# EAGLE library part MAX4947EBA (library maxim)
Hex SPDT Data Switch Source: http://datasheets.maxim-ic.com/en/ds/MAX4947-MAX4948.pdf
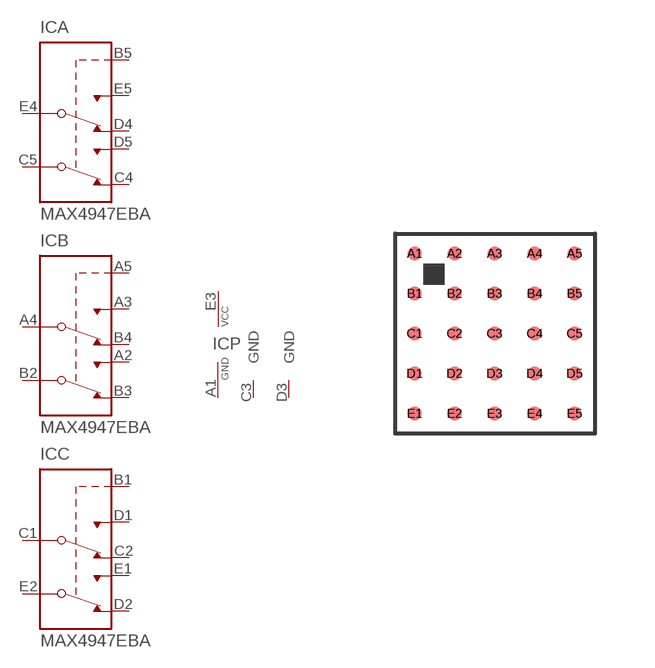
[diagram p106: symbol with the pads of UCSP25; footprint UCSP25]

Designator prefix IC; gates A=MAX4947 B=MAX4947 C=MAX4947 P=VCC-GND P1=GND P2=GND

## MAX4947EBA (MPN: MAX4947EBA+T; OC_FARNELL: unknown; OC_NEWARK: 19M9695)  [UCSP25]
A1  P:GND  pwr
A2  B:NO2
A3  B:NO1
A4  B:COM1
A5  B:CB  in
B1  C:CB  in
B2  B:COM2
B3  B:NC2
B4  B:NC1
B5  A:CB  in
C1  C:COM1
C2  C:NC1
C3  P1:GND  pwr
C4  A:NC2
C5  A:COM2
D1  C:NO1
D2  C:NC2
D3  P2:GND  pwr
D4  A:NC1
D5  A:NO2
E1  C:NO2
E2  C:COM2
E3  P:VCC  pwr
E4  A:COM1
E5  A:NO1

## Footprint UCSP25 (pad centres in mm)
UCSP-25 Source: http://datasheets.maxim-ic.com/en/ds/MAX4947-MAX4948.pdf
smd 0.35 x 0.35: A1 -2,2; A2 -1,2; A3 0,2; A4 1,2; A5 2,2; B1 -2,1; B2 -1,1; B3 0,1; B4 1,1; B5 2,1; C1 -2,0; C2 -1,0; C3 0,0; C4 1,0; C5 2,0; D1 -2,-1; D2 -1,-1; D3 0,-1; D4 1,-1; D5 2,-1; E1 -2,-2; E2 -1,-2; E3 0,-2; E4 1,-2; E5 2,-2